# EAGLE library part MEGA64B (library avrs)
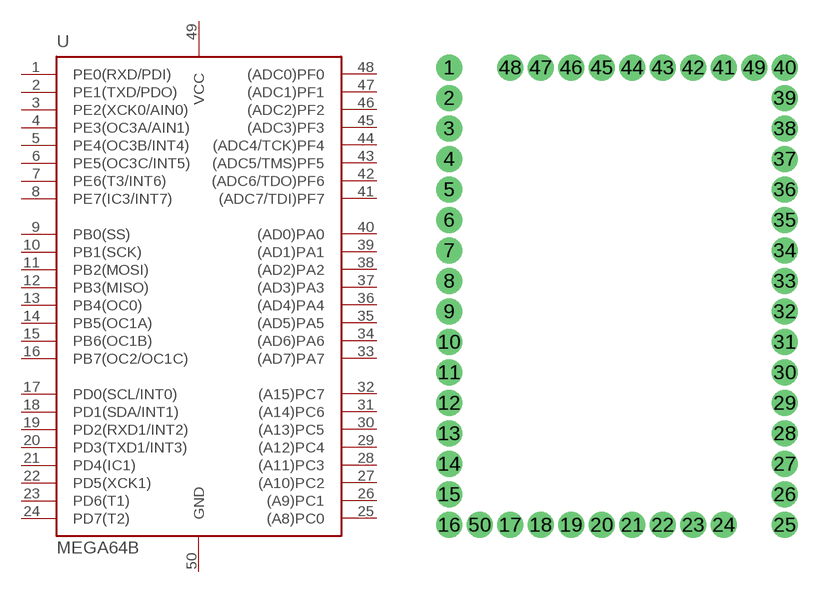
[diagram p8: symbol with the pads of MEGA64B; footprint MEGA64B]

Designator prefix -

## MEGA64B  [MEGA64B]
1  PE0(RXD/PDI)
2  PE1(TXD/PDO)
3  PE2(XCK0/AIN0)
4  PE3(OC3A/AIN1)
5  PE4(OC3B/INT4)
6  PE5(OC3C/INT5)
7  PE6(T3/INT6)
8  PE7(IC3/INT7)
9  PB0(SS)
10  PB1(SCK)
11  PB2(MOSI)
12  PB3(MISO)
13  PB4(OC0)
14  PB5(OC1A)
15  PB6(OC1B)
16  PB7(OC2/OC1C)
17  PD0(SCL/INT0)
18  PD1(SDA/INT1)
19  PD2(RXD1/INT2)
20  PD3(TXD1/INT3)
21  PD4(IC1)
22  PD5(XCK1)
23  PD6(T1)
24  PD7(T2)
25  (A8)PC0  out
26  (A9)PC1  out
27  (A10)PC2  out
28  (A11)PC3  out
29  (A12)PC4  out
30  (A13)PC5  out
31  (A14)PC6  out
32  (A15)PC7  out
33  (AD7)PA7
34  (AD6)PA6
35  (AD5)PA5
36  (AD4)PA4
37  (AD3)PA3
38  (AD2)PA2
39  (AD1)PA1
40  (AD0)PA0
41  (ADC7/TDI)PF7  in
42  (ADC6/TDO)PF6  in
43  (ADC5/TMS)PF5  in
44  (ADC4/TCK)PF4  in
45  (ADC3)PF3  in
46  (ADC2)PF2  in
47  (ADC1)PF1  in
48  (ADC0)PF0  in
49  VCC  in
50  GND  in

## Footprint MEGA64B (pad centres in mm)
drill 1 pad 2.184: 1 -13.97,17.78; 2 -13.97,15.24; 3 -13.97,12.7; 4 -13.97,10.16; 5 -13.97,7.62; 6 -13.97,5.08; 7 -13.97,2.54; 8 -13.97,0; 9 -13.97,-2.54; 10 -13.97,-5.08; 11 -13.97,-7.62; 12 -13.97,-10.16; 13 -13.97,-12.7; 14 -13.97,-15.24; 15 -13.97,-17.78; 16 -13.97,-20.32; 17 -8.89,-20.32; 18 -6.35,-20.32; 19 -3.81,-20.32; 20 -1.27,-20.32; 21 1.27,-20.32; 22 3.81,-20.32; 23 6.35,-20.32; 24 8.89,-20.32; 25 13.97,-20.32; 26 13.97,-17.78; 27 13.97,-15.24; 28 13.97,-12.7; 29 13.97,-10.16; 30 13.97,-7.62; 31 13.97,-5.08; 32 13.97,-2.54; 33 13.97,0; 34 13.97,2.54; 35 13.97,5.08; 36 13.97,7.62; 37 13.97,10.16; 38 13.97,12.7; 39 13.97,15.24; 40 13.97,17.78; 41 8.89,17.78; 42 6.35,17.78; 43 3.81,17.78; 44 1.27,17.78; 45 -1.27,17.78; 46 -3.81,17.78; 47 -6.35,17.78; 48 -8.89,17.78; 49 11.43,17.78; 50 -11.43,-20.32